# Altium footprint library APSS Connectors.PcbLib: 92 footprints (part 2 of 6)
Each footprint in its own frame and in the unit in brackets; x right, y up, seen from the top. Pads: shape width x height; smd on the part's side, far side on the other; paste and mask are expansions set on the pad; w line width, h text height; cw(c..) or ccw(c..) is an arc to the next point about the centre after c.
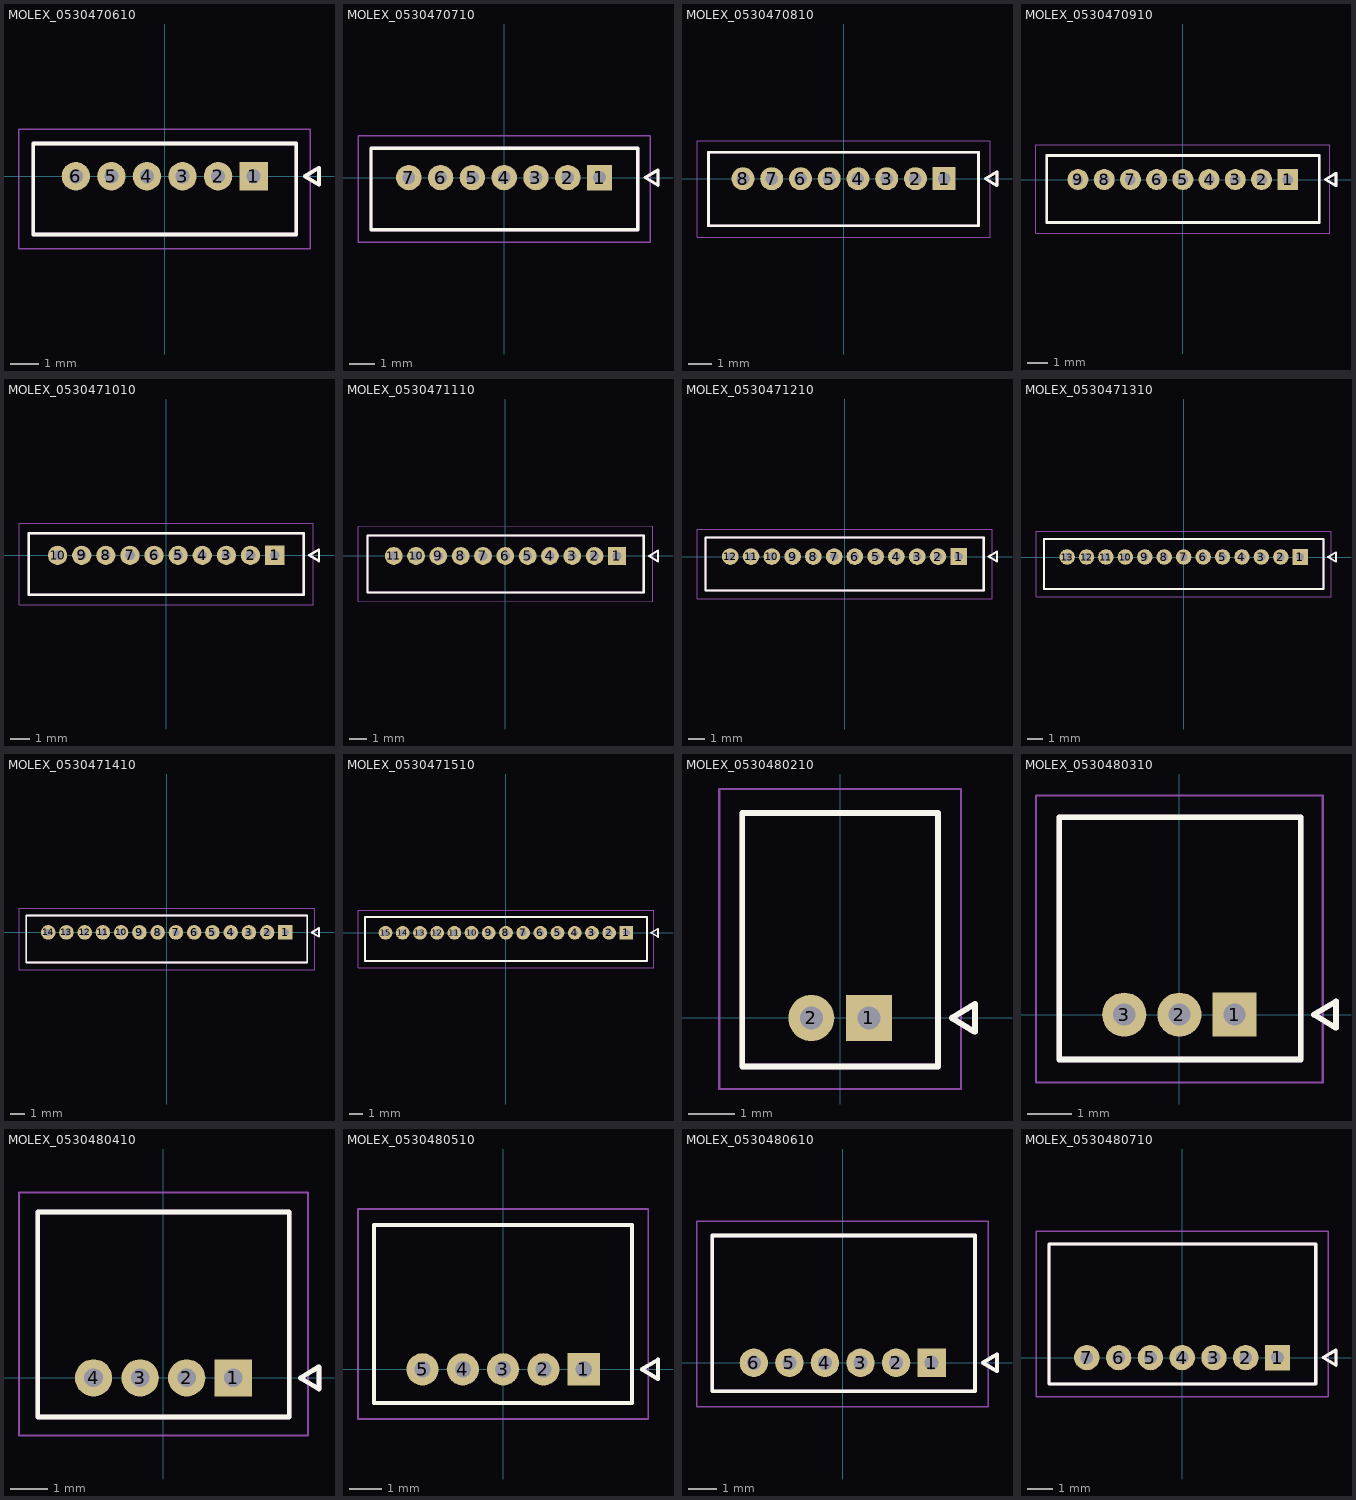
[diagram p1: the footprints below, top view; thin cyan lines are the x and y axes]

## MOLEX_0530470610 [mm]
height 4.2
pads (6):
  rect 1x1 hole 0.5 mask+0.051: 1(3.125,0)
  round 1 hole 0.5 mask+0.051: 2(1.875,0) 3(0.625,0) 4(-0.625,0) 5(-1.875,0) 6(-3.125,0)
Top Overlay:
  lines w0.127: -4.625,-2.05 4.625,-2.05 4.625,1.15 -4.625,1.15 -4.625,-2.05 ; 4.925,0 5.425,-0.3 5.425,0.3 4.925,0
Mechanical 13:
  lines w0.127: -4.625,-2.05 4.625,-2.05 4.625,1.15 -4.625,1.15 -4.625,-2.05 ; 4.925,0 5.425,-0.3 5.425,0.3 4.925,0
Mechanical 15:
  lines w0.05: -5.125,-2.55 -5.125,1.65 5.125,1.65 5.125,-2.55 -5.125,-2.55
3D body "530470610.stp": height 4.21, standoff -2.29, extent -4.675,-2.057 4.575,1.143

## MOLEX_0530470710 [mm] "Header - Picoblade 07-pin, TH, STR, 4.2mm height"
height 4.2
pads (7):
  rect 1x1 hole 0.5 mask+0.051: 1(3.75,0)
  round 1 hole 0.5 mask+0.051: 2(2.5,0) 3(1.25,0) 4(0,0) 5(-1.25,0) 6(-2.5,0) 7(-3.75,0)
Top Overlay:
  lines w0.127: -5.242,-2.05 -5.242,1.15 5.25,1.15 5.25,-2.05 -5.242,-2.05 ; 5.55,0 6.05,0.3 6.05,-0.3 5.55,0
Mechanical 13:
  lines w0.127: -5.242,-2.05 -5.242,1.15 5.25,1.15 5.25,-2.05 -5.242,-2.05 ; 5.55,0 6.05,0.3 6.05,-0.3 5.55,0
Mechanical 15:
  lines w0.05: -5.75,-2.55 5.75,-2.55 5.75,1.65 -5.75,1.65 -5.75,-2.55
3D body "530470710.stp": height 4.21, standoff -2.29, extent -5.259,-2.057 5.241,1.143

## MOLEX_0530470810 [mm]
height 4.2
pads (8):
  rect 1x1 hole 0.55 mask+0.051: 1(4.375,0)
  round 1 hole 0.55 mask+0.051: 2(3.125,0) 3(1.875,0) 4(0.625,0) 5(-0.625,0) 6(-1.875,0) 7(-3.125,0) 8(-4.375,0)
Top Overlay:
  lines w0.127: -5.875,-2.05 5.875,-2.05 5.875,1.15 -5.875,1.15 -5.875,-2.05 ; 6.175,0 6.675,-0.3 6.675,0.3 6.175,0
Mechanical 13:
  lines w0.127: -5.875,-2.05 5.875,-2.05 5.875,1.15 -5.875,1.15 -5.875,-2.05 ; 6.175,0 6.675,-0.3 6.675,0.3 6.175,0
Mechanical 15:
  lines w0.05: -6.375,-2.55 -6.375,1.65 6.375,1.65 6.375,-2.55 -6.375,-2.55
3D body "step_temp.STEP": height 4.2, standoff -2.3, extent -5.875,-2.05 5.875,1.15

## MOLEX_0530470910 [mm] "Header - Picoblade 09-pin, TH, STR, 4.2mm height"
height 4.2
pads (9):
  rect 1x1 hole 0.5 mask+0.051: 1(5,0)
  round 1 hole 0.5 mask+0.051: 2(3.75,0) 3(2.5,0) 4(1.25,0) 5(0,0) 6(-1.25,0) 7(-2.5,0) 8(-3.75,0) 9(-5,0)
Top Overlay:
  lines w0.127: -6.481,-2.05 6.5,-2.05 6.5,1.15 -6.481,1.15 -6.481,-2.05 ; 6.8,0 7.3,-0.3 7.3,0.3 6.8,0
Mechanical 13:
  lines w0.127: -6.481,-2.05 6.5,-2.05 6.5,1.15 -6.481,1.15 -6.481,-2.05 ; 6.8,0 7.3,-0.3 7.3,0.3 6.8,0
Mechanical 15:
  lines w0.05: -7,-2.55 -7,1.65 7,1.65 7,-2.55 -7,-2.55
3D body "530470910.step": height 4.21, standoff -2.29, extent -6.501,-2.057 6.499,1.143

## MOLEX_0530471010 [mm]
height 4.2
pads (10):
  rect 1x1 hole 0.5 mask+0.051: 1(5.625,0)
  round 1 hole 0.5 mask+0.051: 2(4.375,0) 3(3.125,0) 4(1.875,0) 5(0.625,0) 6(-0.625,0) 7(-1.875,0) 8(-3.125,0) 9(-4.375,0) 10(-5.625,0)
Top Overlay:
  lines w0.127: -7.125,-2.05 7.125,-2.05 7.125,1.15 -7.125,1.15 -7.125,-2.05 ; 7.425,0 7.925,-0.3 7.925,0.3 7.425,0
Mechanical 13:
  lines w0.127: -7.125,-2.05 7.125,-2.05 7.125,1.15 -7.125,1.15 -7.125,-2.05 ; 7.425,0 7.925,-0.3 7.925,0.3 7.425,0
Mechanical 15:
  lines w0.05: -7.625,-2.55 -7.625,1.65 7.625,1.65 7.625,-2.55 -7.625,-2.55
3D body "530471010.stp": height 4.21, standoff -2.29, extent -7.088,-2.032 7.162,1.168

## MOLEX_0530471110 [mm] "Header - Picoblade 11-pin, TH, STR, 4.2mm height"
height 4.2
pads (11):
  rect 1x1 hole 0.5 mask+0.051: 1(6.25,0)
  round 1 hole 0.5 mask+0.051: 2(5,0) 3(3.75,0) 4(2.5,0) 5(1.25,0) 6(0,0) 7(-1.25,0) 8(-2.5,0) 9(-3.75,0) 10(-5,0) 11(-6.25,0)
Top Overlay:
  lines w0.127: -7.72,-2.05 -7.72,1.15 7.75,1.15 7.75,-2.05 -7.72,-2.05 ; 8.05,0 8.55,-0.3 8.55,0.3 8.05,0
Mechanical 13:
  lines w0.127: -7.72,-2.05 7.75,-2.05 7.75,1.15 -7.72,1.15 -7.72,-2.05 ; 8.05,0 8.55,-0.3 8.55,0.3 8.05,0
Mechanical 15:
  lines w0.05: -8.25,-2.55 8.25,-2.55 8.25,1.65 -8.25,1.65 -8.25,-2.55
3D body "530471110.stp": height 4.21, standoff -2.29, extent -7.751,-2.057 7.749,1.143

## MOLEX_0530471210 [mm]
height 4.2
pads (12):
  rect 1x1 hole 0.5 mask+0.051: 1(6.875,0)
  round 1 hole 0.5 mask+0.051: 2(5.625,0) 3(4.375,0) 4(3.125,0) 5(1.875,0) 6(0.625,0) 7(-0.625,0) 8(-1.875,0) 9(-3.125,0) 10(-4.375,0) 11(-5.625,0) 12(-6.875,0)
Top Overlay:
  lines w0.127: -8.375,-2.05 -8.375,1.15 8.375,1.15 8.375,-2.05 -8.375,-2.05 ; 8.675,0 9.175,-0.3 9.175,0.3 8.675,0
Mechanical 13:
  lines w0.127: -8.375,-2.05 8.375,-2.05 8.375,1.15 -8.375,1.15 -8.375,-2.05 ; 8.675,0 9.175,-0.3 9.175,0.3 8.675,0
Mechanical 15:
  lines w0.05: -8.875,-2.55 -8.875,1.65 8.875,1.65 8.875,-2.55 -8.875,-2.55
3D body "530471210.stp": height 4.21, standoff -2.29, extent -8.358,-2.032 8.392,1.168

## MOLEX_0530471310 [mm] "Header - Picoblade 13-pin, TH, STR, 4.2mm height"
height 4.2
pads (13):
  rect 1x1 hole 0.5 mask+0.051: 1(7.5,0)
  round 1 hole 0.5 mask+0.051: 2(6.25,0) 3(5,0) 4(3.75,0) 5(2.5,0) 6(1.25,0) 7(0,0) 8(-1.25,0) 9(-2.5,0) 10(-3.75,0) 11(-5,0) 12(-6.25,0) 13(-7.5,0)
Top Overlay:
  lines w0.127: -8.985,-2.05 9,-2.05 9,1.15 -8.985,1.15 -8.985,-2.05 ; 9.3,0 9.8,0.3 9.8,-0.3 9.3,0
Mechanical 13:
  lines w0.127: -8.985,-2.05 9,-2.05 9,1.15 -8.985,1.15 -8.985,-2.05 ; 9.3,0 9.8,0.3 9.8,-0.3 9.3,0
Mechanical 15:
  lines w0.05: -9.5,-2.55 9.5,-2.55 9.5,1.65 -9.5,1.65 -9.5,-2.55
3D body "530471310.stp": height 4.21, standoff -2.29, extent -9.001,-2.057 8.999,1.143

## MOLEX_0530471410 [mm]
height 4.2
pads (14):
  rect 1x1 hole 0.5 mask+0.051: 1(8.125,0)
  round 1 hole 0.5 mask+0.051: 2(6.875,0) 3(5.625,0) 4(4.375,0) 5(3.125,0) 6(1.875,0) 7(0.625,0) 8(-0.625,0) 9(-1.875,0) 10(-3.125,0) 11(-4.375,0) 12(-5.625,0) 13(-6.875,0) 14(-8.125,0)
Top Overlay:
  lines w0.127: -9.625,-2.05 9.625,-2.05 9.625,1.15 -9.625,1.15 -9.625,-2.05 ; 9.925,0 10.425,-0.3 10.425,0.3 9.925,0
Mechanical 13:
  lines w0.127: -9.625,-2.05 9.625,-2.05 9.625,1.15 -9.625,1.15 -9.625,-2.05 ; 9.925,0 10.425,-0.3 10.425,0.3 9.925,0
Mechanical 15:
  lines w0.05: -10.125,-2.55 -10.125,1.65 10.125,1.65 10.125,-2.55 -10.125,-2.55
3D body "530471410.stp": height 4.21, standoff -2.29, extent -9.601,-2.032 9.649,1.168

## MOLEX_0530471510 [mm] "Header - Picoblade 15-pin, TH, STR, 4.2mm height"
height 4.2
pads (15):
  rect 1x1 hole 0.5 mask+0.051: 1(8.75,0)
  round 1 hole 0.5 mask+0.051: 2(7.5,0) 3(6.25,0) 4(5,0) 5(3.75,0) 6(2.5,0) 7(1.25,0) 8(0,0) 9(-1.25,0) 10(-2.5,0) 11(-3.75,0) 12(-5,0) 13(-6.25,0) 14(-7.5,0) 15(-8.75,0)
Top Overlay:
  lines w0.127: -10.249,-2.05 -10.249,1.15 10.25,1.15 10.25,-2.05 -10.249,-2.05 ; 10.55,0 11.05,-0.3 11.05,0.3 10.55,0
Mechanical 13:
  lines w0.127: -10.25,-2.05 -10.25,1.15 ; -10.249,-2.05 10.25,-2.05 10.25,1.15 -10.249,1.15 ; 10.55,0 11.05,-0.3 11.05,0.3 10.55,0
Mechanical 15:
  lines w0.05: -10.75,-2.55 -10.75,1.65 10.75,1.65 10.75,-2.55 -10.75,-2.55
3D body "530471510.stp": height 4.21, standoff -2.29, extent -10.251,-2.057 10.249,1.143

## MOLEX_0530480210 [mm]
height 3.5
pads (2):
  rect 1x1 hole 0.5 mask+0.051: 1(0.625,0)
  round 1 hole 0.5 mask+0.051: 2(-0.625,0)
Top Overlay:
  lines w0.127: -2.125,-1.05 2.125,-1.05 2.125,4.45 -2.125,4.45 -2.125,-1.05 ; 2.425,0 2.925,-0.3 2.925,0.3 2.425,0
Mechanical 13:
  lines w0.127: -2.125,-1.05 2.125,-1.05 2.125,4.45 -2.125,4.45 -2.125,-1.05 ; 2.425,0 2.925,-0.3 2.925,0.3 2.425,0
Mechanical 15:
  lines w0.05: -2.625,-1.541 -2.625,4.97 2.625,4.97 2.625,-1.541 -2.625,-1.541
3D body "530480210.step": height 3.56, standoff -2.24, extent -2.125,-1.075 2.125,4.425

## MOLEX_0530480310 [mm] "Header - Picoblade 03-pin, TH, RA, 4.2mm height"
height 4.2
pads (3):
  rect 1x1 hole 0.5 mask+0.051: 1(1.25,0)
  round 1 hole 0.5 mask+0.051: 2(0,0) 3(-1.25,0)
Top Overlay:
  lines w0.127: -2.725,-1.016 2.75,-1.016 2.75,4.47 -2.725,4.47 -2.725,-1.016 ; 3.05,0 3.55,-0.3 3.55,0.3 3.05,0
Mechanical 13:
  lines w0.127: -2.725,-1.016 2.75,-1.016 2.75,4.47 -2.725,4.47 -2.725,-1.016 ; 3.05,0 3.55,-0.3 3.55,0.3 3.05,0
Mechanical 15:
  lines w0.05: -3.25,-1.541 -3.25,4.97 3.25,4.97 3.25,-1.541 -3.25,-1.541
3D body "530480310.step": height 3.51, standoff -2.29, extent -2.745,-1.041 2.755,4.459

## MOLEX_0530480410 [mm]
height 3.5
pads (4):
  rect 1x1 hole 0.5 mask+0.051: 1(1.875,0)
  round 1 hole 0.5 mask+0.051: 2(0.625,0) 3(-0.625,0) 4(-1.875,0)
Top Overlay:
  lines w0.127: -3.375,-1.05 -3.375,4.45 3.375,4.45 3.375,-1.05 -3.375,-1.05 ; 3.675,0 4.175,0.3 4.175,-0.3 3.675,0
Mechanical 13:
  lines w0.127: -3.375,-1.05 -3.375,4.45 3.375,4.45 3.375,-1.05 -3.375,-1.05 ; 3.675,0 4.175,0.3 4.175,-0.3 3.675,0
Mechanical 15:
  lines w0.05: -3.875,-1.541 -3.875,4.97 3.875,4.97 3.875,-1.541 -3.875,-1.541
3D body "530480410.step": height 3.56, standoff -2.24, extent -3.375,-1.025 3.375,4.475

## MOLEX_0530480510 [mm] "Header - Picoblade 05-pin, TH, RA, 4.2mm height"
height 4.2
pads (5):
  rect 1x1 hole 0.5 mask+0.051: 1(2.5,0)
  round 1 hole 0.5 mask+0.051: 2(1.25,0) 3(0,0) 4(-1.25,0) 5(-2.5,0)
Top Overlay:
  lines w0.127: -4.002,-1.041 4,-1.041 4,4.47 -4.002,4.47 -4.002,-1.041 ; 4.3,0 4.8,-0.3 4.8,0.3 4.3,0
Mechanical 13:
  lines w0.127: -4.002,-1.041 4,-1.041 4,4.47 -4.002,4.47 -4.002,-1.041 ; 4.3,0 4.8,-0.3 4.8,0.3 4.3,0
Mechanical 15:
  lines w0.05: -4.5,-1.541 4.5,-1.541 4.5,4.97 -4.5,4.97 -4.5,-1.541
3D body "530480510.step": height 3.51, standoff -2.29, extent -4.001,-1.048 3.999,4.452

## MOLEX_0530480610 [mm]
height 3.5
pads (6):
  rect 1x1 hole 0.5 mask+0.051: 1(3.125,0)
  round 1 hole 0.5 mask+0.051: 2(1.875,0) 3(0.625,0) 4(-0.625,0) 5(-1.875,0) 6(-3.125,0)
Top Overlay:
  lines w0.127: -4.59,-1 4.65,-1 4.65,4.475 -4.59,4.475 -4.59,-1 ; 4.925,0 5.425,-0.3 5.425,0.3 4.925,0
Mechanical 13:
  lines w0.127: -4.59,-1 4.65,-1 4.65,4.475 -4.59,4.475 -4.59,-1 ; 4.925,0 5.425,-0.3 5.425,0.3 4.925,0
Mechanical 15:
  lines w0.05: -5.125,-1.541 -5.125,4.97 5.125,4.97 5.125,-1.541 -5.125,-1.541
3D body "0530480610--3DModel-STEP-231308.STEP": height 3.56, standoff -2.23, extent -4.601,-1.016 4.649,4.484

## MOLEX_0530480710 [mm] "Header - Picoblade 07-pin, TH, RA, 4.2mm height"
height 4.2
pads (7):
  rect 1x1 hole 0.5 mask+0.051: 1(3.75,0)
  round 1 hole 0.5 mask+0.051: 2(2.5,0) 3(1.25,0) 4(0,0) 5(-1.25,0) 6(-2.5,0) 7(-3.75,0)
Top Overlay:
  lines w0.127: -5.242,-1.041 -5.242,4.47 5.25,4.47 5.25,-1.041 -5.242,-1.041 ; 5.55,0 6.05,0.3 6.05,-0.3 5.55,0
Mechanical 13:
  lines w0.127: -5.242,-1.041 -5.242,4.47 5.25,4.47 5.25,-1.041 -5.242,-1.041 ; 5.55,0 6.05,0.3 6.05,-0.3 5.55,0
Mechanical 15:
  lines w0.05: -5.75,-1.541 -5.75,4.97 5.75,4.97 5.75,-1.541 -5.75,-1.541
3D body "530480710.step": height 3.51, standoff -2.29, extent -5.259,-1.045 5.241,4.455